# Altium footprint library WISP_AD10.PcbLib: 84 footprints (part 5 of 6)
Each footprint in its own frame and in the unit in brackets; x right, y up, seen from the top. Pads: shape width x height; smd on the part's side, far side on the other; paste and mask are expansions set on the pad; w line width, h text height; cw(c..) or ccw(c..) is an arc to the next point about the centre after c.
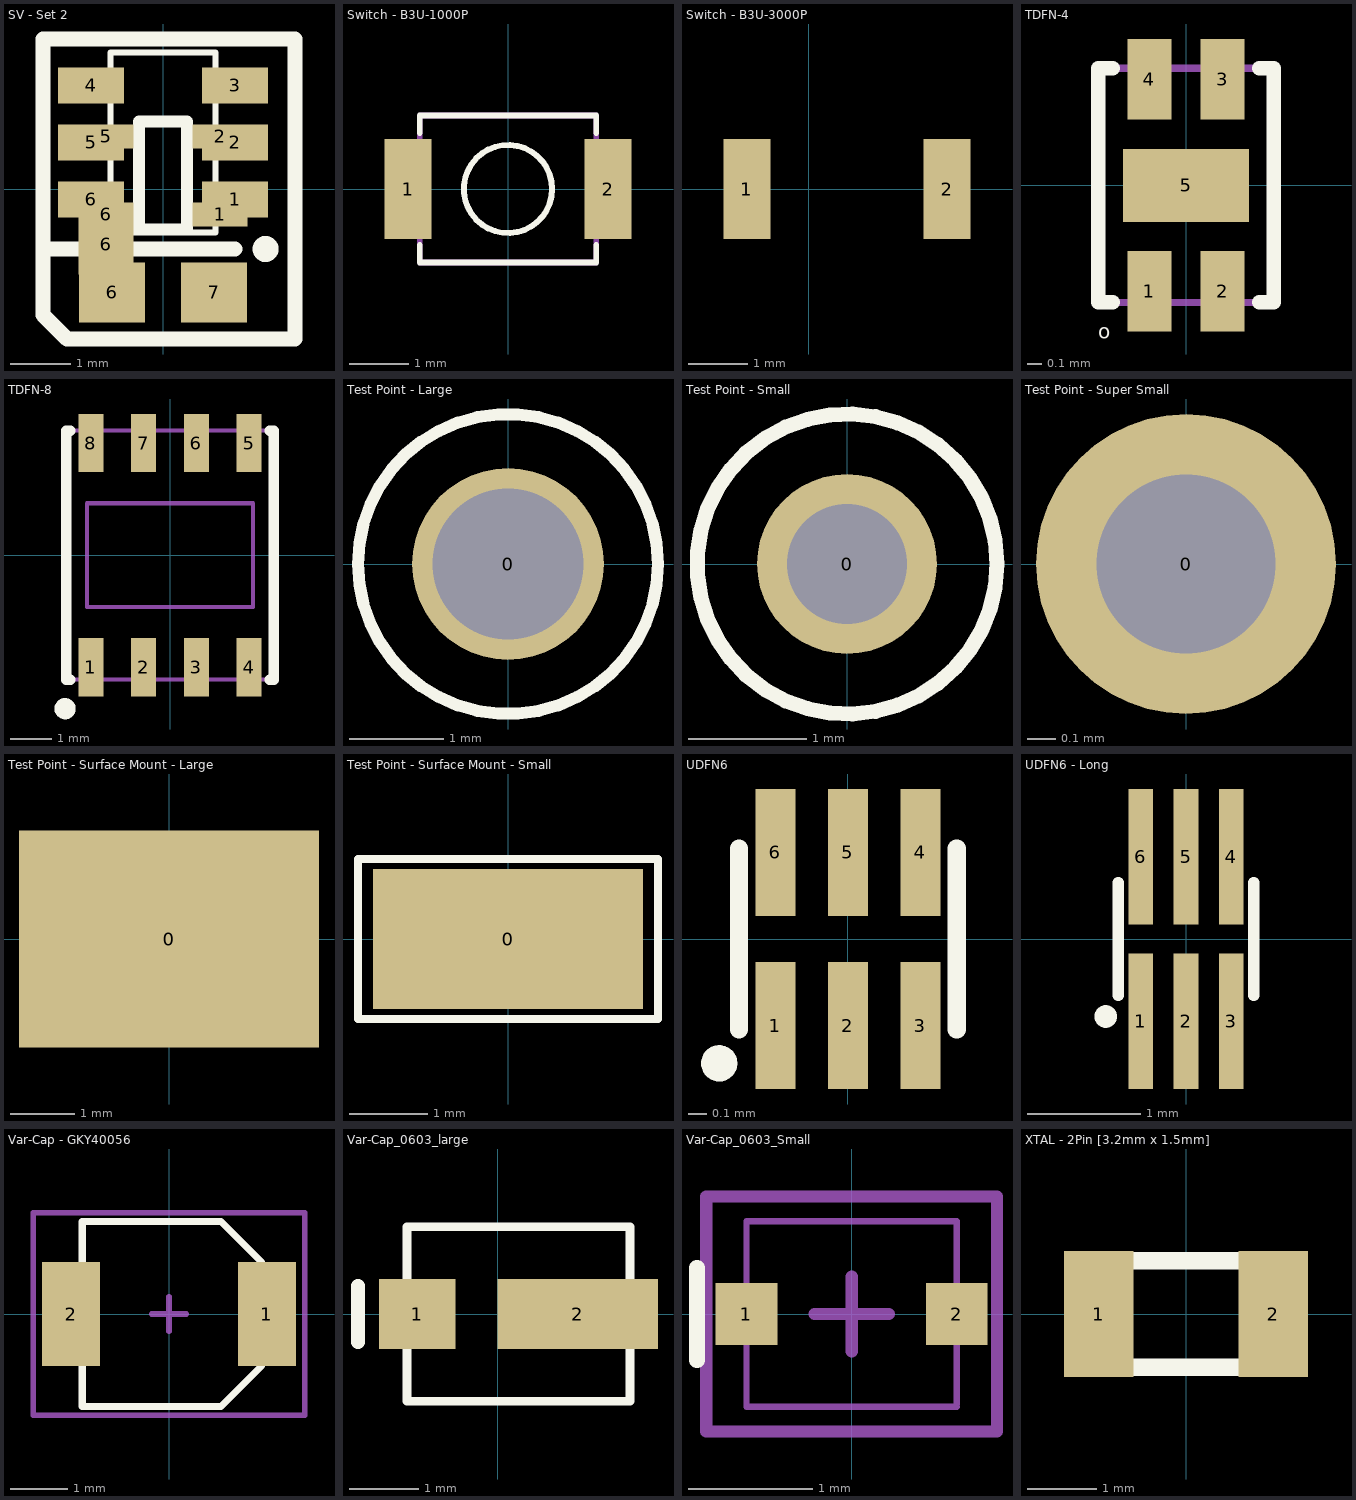
[diagram p4: the footprints below, top view; thin cyan lines are the x and y axes]

## SV - Set 2 [mm] "S-1000 (SOT-23-5, SC-82);  S1009 (SOT-23-5);  XC61C (SC-82, SOT-23);  NCP300 (SOT-23-5)"
pads (13):
  rect 0.92x0.4 smd: 1(0.95,-0.425) 2(0.95,0.875) 5(-0.95,0.875) 6(-0.95,-0.425)
  rect 1.1x0.6 smd: 1(1.2,-0.175) 2(1.2,0.775) 3(1.2,1.725) 4(-1.2,1.725) 5(-1.2,0.775) 6(-1.2,-0.175)
  rect 0.92x1 smd: 6(-0.95,-0.925)
  rect 1.1x1 smd: 6(-0.85,-1.725) 7(0.85,-1.725)
Top Overlay:
  circle w0.254: c1.71,-1 r0.09
  lines w0.1: -0.875,-0.725 -0.875,2.275 0.875,2.275 0.875,-0.725 -0.875,-0.725
  lines w0.2: 0.4,-0.675 -0.4,-0.675 -0.4,1.125 0.4,1.125 0.4,-0.675
  lines w0.254: -2,-1 1.2,-1 ; -2,-2.1 -2,2.5 2.2,2.5 2.2,-2.5 -1.6,-2.5 -2,-2.1

## Switch - B3U-1000P [mm] "Top Push Button Switch, OMRON, SPST-NO, Off-Mom, 0.05A 12V"
height 1.6
pads (2):
  rect 0.8x1.7 smd: 1(-1.7,0) 2(1.7,0)
Top Overlay:
  circle w0.1: c0,0 r0.75
  lines w0.1: -1.5,-0.95 -1.5,-1.25 1.5,-1.25 1.5,-0.95 ; -1.5,0.95 -1.5,1.25 1.5,1.25 1.5,0.95
Mechanical 13:
  lines w0.1: -1.5,1.25 1.5,1.25 ; -1.5,1.25 -1.5,-1.25 1.5,-1.25 1.5,1.25 ; -1.5,1.25 1.5,1.25
  text ".Designator" at -1.143,-0.381 h0.76
3D body: height 1.6, standoff 0, extent -0.8,-0.7 0.694,0.797
3D body: height 1.2, standoff 0, extent -1.5,-1.25 1.5,1.25

## Switch - B3U-3000P [mm] "Side Push Button Switch, OMRON, SPST-NO, Off-Mom, 0.05A 12V"
height 1.2
pads (2):
  rect 0.8x1.7 smd: 1(-1.05,0) 2(2.35,0)
3D body: height 1.2, standoff 0, extent -0.825,-1.25 2.175,1.25
3D body: height 1.2, standoff 0, extent 0.125,1.25 1.125,1.975

## TDFN-4 [mm] "TDFN4 1.2 x 1.6"
height 0.55
pads (5):
  rect 0.3x0.55 smd: 1(-0.25,-0.725) 2(0.25,-0.725) 3(0.25,0.725) 4(-0.25,0.725)
  rect 0.86x0.5 smd: 5(0,0)
Top Overlay:
  lines w0.1: -0.5,-0.8 -0.6,-0.8 -0.6,0.8 -0.5,0.8 ; 0.5,-0.8 0.6,-0.8 0.6,0.8 0.5,0.8
  text "o" at -0.6,-1.05 h0.1
Mechanical 13:
  circle w0.1: c-0.25,-0.725 r0.025
  lines w0.05: -0.6,-0.8 0.6,-0.8 0.6,0.8 -0.6,0.8 -0.6,-0.8
  text ".Designator" at 0.102,-0.66 h0.25
3D body: height 0.55, standoff 0, extent -0.6,-0.8 0.6,0.8

## TDFN-8 [mm] "FM25V20 - 2Mb SPI F-RAM"
height 0.5
pads (8):
  rect 0.6x1.4 smd: 1(-1.905,-2.7) 2(-0.635,-2.7) 3(0.635,-2.7) 4(1.905,-2.7) 5(1.905,2.7) 6(0.635,2.7) 7(-0.635,2.7) 8(-1.905,2.7)
Top Overlay:
  circle w0.254: c-2.527,-3.7 r0.127
  lines w0.254: -2.4,-3 -2.5,-3 -2.5,3 -2.4,3 ; 2.4,-3 2.5,-3 2.5,3 2.4,3
Mechanical 3:
  lines w0.1: -2,-1.25 -2,1.25 2,1.25 2,-1.25 -2,-1.25
  text "Exposed floating pad:" at -1.8,0.8 h0.13
  text "minimize traces" at -1.8,0.5 h0.13
  text "routing in this area." at -1.8,0.2 h0.13
Mechanical 13:
  circle w0.1: c-1.905,-2.7 r0.085
  lines w0.1: -2.5,-3 2.5,-3 2.5,3 -2.5,3 -2.5,-3
  text ".Designator" at -1.397,-1.651 h0.76
3D body: height 0.75, standoff 0, extent -2.5,-3 2.5,3

## Test Point - Large [mil] "Test Point, 63mil hole, example DK: 5012K-ND"
pads (1):
  round 80 hole 63: 0(0,0)
Top Overlay:
  circle w5: c0,0 r62.5

## Test Point - Small [mil] "Test Point, 40mil hole, example DK: 5000K-ND"
pads (1):
  round 60 hole 40: 0(0,0)
Top Overlay:
  circle w5: c0,0 r50

## Test Point - Super Small [mil] "25 - 42"
pads (1):
  round 42 hole 25: 0(0,0)

## Test Point - Surface Mount - Large [mm] "Test Point, Surface Mount Large , example DK: 5016KCT-ND"
pads (1):
  rect 4.7x3.4 smd: 0(0,0)
Top Overlay:
  circle w0.127: c0,0 r1.27

## Test Point - Surface Mount - Small [mil] "Test Point, Surface Mount Large , example DK: 5015KCT-ND"
pads (1):
  rect 135x70 smd: 0(0,0)
Top Overlay:
  lines w3.94: -75,-40 75,-40 75,40 -75,40 -75,-40

## UDFN6 [mm] "UDFN6 - Level Shifter -  NLSV1T244"
height 0.5
pads (6):
  rect 0.22x0.7 smd: 1(-0.4,-0.477) 2(0,-0.477) 3(0.4,-0.477) 4(0.4,0.477) 5(0,0.477) 6(-0.4,0.477)
Top Overlay:
  circle w0.1: c-0.71,-0.686 r0.05
  lines w0.1: -0.6,-0.5 -0.6,0.5 ; 0.6,-0.5 0.6,0.5

## UDFN6 - Long [mm] "UDFN6 - Level Shifter -  NLSV1T244"
height 0.5
pads (6):
  rect 0.22x1.2 smd: 1(-0.4,-0.727) 2(0,-0.727) 3(0.4,-0.727) 4(0.4,0.727) 5(0,0.727) 6(-0.4,0.727)
Top Overlay:
  circle w0.1: c-0.71,-0.686 r0.05
  lines w0.1: -0.6,-0.5 -0.6,0.5 ; 0.6,-0.5 0.6,0.5

## Var-Cap - GKY40056 [mm] "CAP TRIMMER 8-40PF 50V SMD - GKY40056 - Sprague-Goodman"
height 1.4
pads (2):
  rect 1x1.8 smd: 1(1.695,0) 2(-1.695,0)
Top Overlay:
  lines w0.127: -1.5,-1.6 0.9,-1.6 1.6,-0.9 1.6,0.9 0.9,1.6 -1.5,1.6 -1.5,-1.6
Mechanical 13:
  lines w0.051: -1.5,-1.6 0.85,-1.6 0.9,-1.6 1.6,-0.9 1.6,0.9 0.9,1.6 0.85,1.6 -1.5,1.6 -1.5,-1.6
Mechanical 15:
  lines w0.1: -0.3,0 0.3,0 ; 0,-0.3 0,0.3 ; -2.35,-1.75 2.35,-1.75 2.35,1.75 -2.35,1.75 -2.35,-1.75
3D body: height 1.4, standoff 0, extent -1.5,-1.6 1.6,1.6

## Var-Cap_0603_large [mm] "Var-Cap 603 Compatible, DK: 490-2009 & SG2026CT"
height 1.3
pads (2):
  rect 1.1x1 smd: 1(-1.15,0)
  rect 2.3x1 smd: 2(1.15,0)
Top Overlay:
  lines w0.127: -1.3,-1.25 1.9,-1.25 1.9,1.25 -1.3,1.25 -1.3,-1.25
  lines w0.2: -2,-0.4 -2,0.4

## Var-Cap_0603_Small [mm] "Var-Cap 0603 Compatible High-Q, DK#490-2011-1-ND"
height 0.6
pads (2):
  rect 0.5x0.5 smd: 1(-0.85,0) 2(0.85,0)
Top Overlay:
  lines w0.127: -1.25,-0.375 -1.25,0.375
Mechanical 13:
  lines w0.051: 0.85,-0.75 -0.85,-0.75 -0.85,0.75 0.85,0.75 0.85,-0.725
Mechanical 15:
  lines w0.1: -0.3,0 0.3,0 ; 0,-0.3 0,0.3 ; -1.175,-0.95 1.175,-0.95 1.175,0.95 -1.175,0.95 -1.175,-0.95
3D body: height 0.8, standoff 0, extent -0.85,-0.75 0.85,0.75

## XTAL - 2Pin [3.2mm x 1.5mm] [mm] "FC-135   crystal - epson eletronics"
height 0.8
pads (2):
  rect 1x1.8 smd: 1(-1.25,0) 2(1.25,0)
Top Overlay:
  lines w0.254: -0.762,-0.762 0.762,-0.762 ; -0.762,0.762 0.762,0.762
Mechanical 13:
  lines w0.1: -1.6,-0.75 1.6,-0.75 1.6,0.75 -1.6,0.75 -1.6,-0.75
  text ".Designator" at -1.35,-0.2 h0.51
3D body: height 0.8, standoff 0, extent -1.6,-0.75 1.6,0.75